# Altium footprint library AD5689RBRUZ.PcbLib: 3 footprints
Each footprint in its own frame and in the unit in brackets; x right, y up, seen from the top. Pads: shape width x height; smd on the part's side, far side on the other; paste and mask are expansions set on the pad; w line width, h text height; cw(c..) or ccw(c..) is an arc to the next point about the centre after c.
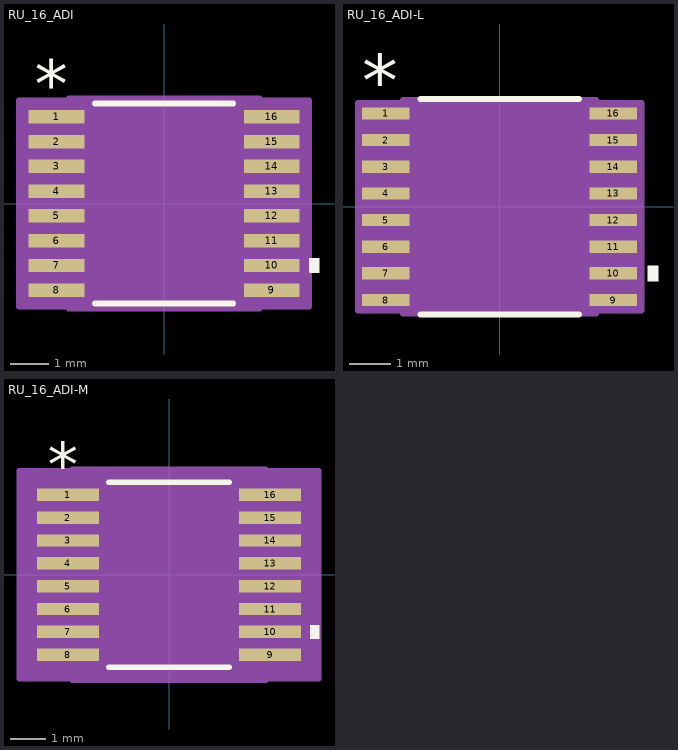
[diagram p0: the footprints below, top view; thin cyan lines are the x and y axes]

## RU_16_ADI [mm]
pads (16):
  rect 1.461x0.351 smd paste+0 mask+0: 1(-2.825,2.275) 2(-2.825,1.625) 3(-2.825,0.975) 4(-2.825,0.325) 5(-2.825,-0.325) 6(-2.825,-0.975) 7(-2.825,-1.625) 8(-2.825,-2.275) 9(2.825,-2.275) 10(2.825,-1.625) 11(2.825,-0.975) 12(2.825,-0.325) 13(2.825,0.325) 14(2.825,0.975) 15(2.825,1.625) 16(2.825,2.275)
Top Overlay:
  region: 3.81,-1.435 4.064,-1.435 4.064,-1.816 3.81,-1.816
  lines w0.152: -1.812,-2.627 1.812,-2.627 ; -1.812,2.627 1.812,2.627
  text ".Designator" at -3.492,-0.635 h1.27
  text "*" at -3.397,2.499 h1.27
Mechanical 13:
  lines w0.025: -0.305,2.5 ccw(c0,2.5) 0.305,2.5 ; -3.2,-2.425 -3.2,-2.125 -2.25,-2.125 -2.25,-2.425 -3.2,-2.425 ; -3.2,-1.775 -3.2,-1.475 -2.25,-1.475 -2.25,-1.775 -3.2,-1.775 ; -3.2,-1.125 -3.2,-0.825 -2.25,-0.825 -2.25,-1.125 -3.2,-1.125 ; -3.2,-0.475 -3.2,-0.175 -2.25,-0.175 -2.25,-0.475 -3.2,-0.475 ; -3.2,0.175 -3.2,0.475 -2.25,0.475 -2.25,0.175 -3.2,0.175 ; -3.2,0.825 -3.2,1.125 -2.25,1.125 -2.25,0.825 -3.2,0.825 ; -3.2,1.475 -3.2,1.775 -2.25,1.775 -2.25,1.475 -3.2,1.475 ; -3.2,2.125 -3.2,2.425 -2.25,2.425 -2.25,2.125 -3.2,2.125 ; -2.25,-2.5 2.25,-2.5 2.25,2.5 -2.25,2.5 -2.25,-2.5 ; 2.25,-2.425 2.25,-2.125 3.2,-2.125 3.2,-2.425 2.25,-2.425 ; 2.25,-1.775 2.25,-1.475 3.2,-1.475 3.2,-1.775 2.25,-1.775 ; 2.25,-1.125 2.25,-0.825 3.2,-0.825 3.2,-1.125 2.25,-1.125 ; 2.25,-0.475 2.25,-0.175 3.2,-0.175 3.2,-0.475 2.25,-0.475 ; 2.25,0.175 2.25,0.475 3.2,0.475 3.2,0.175 2.25,0.175 ; 2.25,0.825 2.25,1.125 3.2,1.125 3.2,0.825 2.25,0.825 ; 2.25,1.475 2.25,1.775 3.2,1.775 3.2,1.475 2.25,1.475 ; 2.25,2.125 2.25,2.425 3.2,2.425 3.2,2.125 2.25,2.125
  text "*" at -2.187,1.154 h1.27
  text ".Designator" at -3.492,-0.635 h1.27
Mechanical 15:
  region: -2.504,-2.704 -3.81,-2.704 -3.81,2.704 -2.504,2.704 -2.504,2.754 2.504,2.754 2.504,2.704 3.81,2.704 3.81,-2.704 2.504,-2.704 2.504,-2.754 -2.504,-2.754
  lines w0.152: -3.81,-2.704 -3.81,2.704 -2.504,2.704 -2.504,2.754 2.504,2.754 2.504,2.704 3.81,2.704 3.81,-2.704 2.504,-2.704 2.504,-2.754 -2.504,-2.754 -2.504,-2.704 -3.81,-2.704
3D body "RU_16_ADI.step": height 1.2, standoff 0, extent -3.2,-2.5 3.2,2.5

## RU_16_ADI-L [mm]
pads (16):
  rect 1.156x0.3 smd paste+0 mask+0: 1(-2.774,2.275) 2(-2.774,1.625) 3(-2.774,0.975) 4(-2.774,0.325) 5(-2.774,-0.325) 6(-2.774,-0.975) 7(-2.774,-1.625) 8(-2.774,-2.275) 9(2.774,-2.275) 10(2.774,-1.625) 11(2.774,-0.975) 12(2.774,-0.325) 13(2.774,0.325) 14(2.774,0.975) 15(2.774,1.625) 16(2.774,2.275)
Top Overlay:
  region: 3.606,-1.435 3.86,-1.435 3.86,-1.816 3.606,-1.816
  lines w0.152: -1.932,-2.627 1.932,-2.627 ; -1.932,2.627 1.932,2.627
  text ".Designator" at -3.492,-0.635 h1.27
  text "*" at -3.346,2.448 h1.27
Mechanical 13:
  lines w0.025: -0.305,2.5 ccw(c0,2.5) 0.305,2.5 ; -3.2,-2.425 -3.2,-2.125 -2.25,-2.125 -2.25,-2.425 -3.2,-2.425 ; -3.2,-1.775 -3.2,-1.475 -2.25,-1.475 -2.25,-1.775 -3.2,-1.775 ; -3.2,-1.125 -3.2,-0.825 -2.25,-0.825 -2.25,-1.125 -3.2,-1.125 ; -3.2,-0.475 -3.2,-0.175 -2.25,-0.175 -2.25,-0.475 -3.2,-0.475 ; -3.2,0.175 -3.2,0.475 -2.25,0.475 -2.25,0.175 -3.2,0.175 ; -3.2,0.825 -3.2,1.125 -2.25,1.125 -2.25,0.825 -3.2,0.825 ; -3.2,1.475 -3.2,1.775 -2.25,1.775 -2.25,1.475 -3.2,1.475 ; -3.2,2.125 -3.2,2.425 -2.25,2.425 -2.25,2.125 -3.2,2.125 ; -2.25,-2.5 2.25,-2.5 2.25,2.5 -2.25,2.5 -2.25,-2.5 ; 2.25,-2.425 2.25,-2.125 3.2,-2.125 3.2,-2.425 2.25,-2.425 ; 2.25,-1.775 2.25,-1.475 3.2,-1.475 3.2,-1.775 2.25,-1.775 ; 2.25,-1.125 2.25,-0.825 3.2,-0.825 3.2,-1.125 2.25,-1.125 ; 2.25,-0.475 2.25,-0.175 3.2,-0.175 3.2,-0.475 2.25,-0.475 ; 2.25,0.175 2.25,0.475 3.2,0.475 3.2,0.175 2.25,0.175 ; 2.25,0.825 2.25,1.125 3.2,1.125 3.2,0.825 2.25,0.825 ; 2.25,1.475 2.25,1.775 3.2,1.775 3.2,1.475 2.25,1.475 ; 2.25,2.125 2.25,2.425 3.2,2.425 3.2,2.125 2.25,2.125
  text "*" at -2.187,1.154 h1.27
  text ".Designator" at -3.492,-0.635 h1.27
Mechanical 15:
  region: -2.352,-2.527 -3.454,-2.527 -3.454,2.527 -2.352,2.527 -2.352,2.602 2.352,2.602 2.352,2.527 3.454,2.527 3.454,-2.527 2.352,-2.527 2.352,-2.602 -2.352,-2.602
  lines w0.152: -3.454,-2.527 -3.454,2.527 -2.352,2.527 -2.352,2.602 2.352,2.602 2.352,2.527 3.454,2.527 3.454,-2.527 2.352,-2.527 2.352,-2.602 -2.352,-2.602 -2.352,-2.527 -3.454,-2.527
3D body "RU_16_ADI.step": height 1.2, standoff 0, extent -3.2,-2.5 3.2,2.5

## RU_16_ADI-M [mm]
pads (16):
  rect 1.766x0.351 smd paste+0 mask+0: 1(-2.876,2.275) 2(-2.876,1.625) 3(-2.876,0.975) 4(-2.876,0.325) 5(-2.876,-0.325) 6(-2.876,-0.975) 7(-2.876,-1.625) 8(-2.876,-2.275) 9(2.876,-2.275) 10(2.876,-1.625) 11(2.876,-0.975) 12(2.876,-0.325) 13(2.876,0.325) 14(2.876,0.975) 15(2.876,1.625) 16(2.876,2.275)
Top Overlay:
  region: 4.013,-1.435 4.267,-1.435 4.267,-1.816 4.013,-1.816
  lines w0.152: -1.711,-2.627 1.711,-2.627 ; -1.711,2.627 1.711,2.627
  text ".Designator" at -3.492,-0.635 h1.27
  text "*" at -3.447,2.499 h1.27
Mechanical 13:
  lines w0.025: -0.305,2.5 ccw(c0,2.5) 0.305,2.5 ; -3.2,-2.425 -3.2,-2.125 -2.25,-2.125 -2.25,-2.425 -3.2,-2.425 ; -3.2,-1.775 -3.2,-1.475 -2.25,-1.475 -2.25,-1.775 -3.2,-1.775 ; -3.2,-1.125 -3.2,-0.825 -2.25,-0.825 -2.25,-1.125 -3.2,-1.125 ; -3.2,-0.475 -3.2,-0.175 -2.25,-0.175 -2.25,-0.475 -3.2,-0.475 ; -3.2,0.175 -3.2,0.475 -2.25,0.475 -2.25,0.175 -3.2,0.175 ; -3.2,0.825 -3.2,1.125 -2.25,1.125 -2.25,0.825 -3.2,0.825 ; -3.2,1.475 -3.2,1.775 -2.25,1.775 -2.25,1.475 -3.2,1.475 ; -3.2,2.125 -3.2,2.425 -2.25,2.425 -2.25,2.125 -3.2,2.125 ; -2.25,-2.5 2.25,-2.5 2.25,2.5 -2.25,2.5 -2.25,-2.5 ; 2.25,-2.425 2.25,-2.125 3.2,-2.125 3.2,-2.425 2.25,-2.425 ; 2.25,-1.775 2.25,-1.475 3.2,-1.475 3.2,-1.775 2.25,-1.775 ; 2.25,-1.125 2.25,-0.825 3.2,-0.825 3.2,-1.125 2.25,-1.125 ; 2.25,-0.475 2.25,-0.175 3.2,-0.175 3.2,-0.475 2.25,-0.475 ; 2.25,0.175 2.25,0.475 3.2,0.475 3.2,0.175 2.25,0.175 ; 2.25,0.825 2.25,1.125 3.2,1.125 3.2,0.825 2.25,0.825 ; 2.25,1.475 2.25,1.775 3.2,1.775 3.2,1.475 2.25,1.475 ; 2.25,2.125 2.25,2.425 3.2,2.425 3.2,2.125 2.25,2.125
  text "*" at -2.187,1.154 h1.27
  text ".Designator" at -3.492,-0.635 h1.27
Mechanical 15:
  region: -2.758,-2.958 -4.267,-2.958 -4.267,2.958 -2.758,2.958 -2.758,3.008 2.758,3.008 2.758,2.958 4.267,2.958 4.267,-2.958 2.758,-2.958 2.758,-3.008 -2.758,-3.008
  lines w0.152: -4.267,-2.958 -4.267,2.958 -2.758,2.958 -2.758,3.008 2.758,3.008 2.758,2.958 4.267,2.958 4.267,-2.958 2.758,-2.958 2.758,-3.008 -2.758,-3.008 -2.758,-2.958 -4.267,-2.958
3D body "RU_16_ADI.step": height 1.2, standoff 0, extent -3.2,-2.5 3.2,2.5